# Altium schematic symbol library PB.SchLib: 1 symbol
Pins are listed as number, name and electrical type; pins without a type are passive.

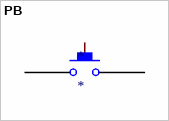
[diagram p0: symbol PB]

## PB
designator *
pins: 0, 1